# Altium schematic symbol library 2K0300久久派_主板_V1.0.4.0.SCHLIB: 42 symbols
Pins are listed as number, name and electrical type; pins without a type are passive.

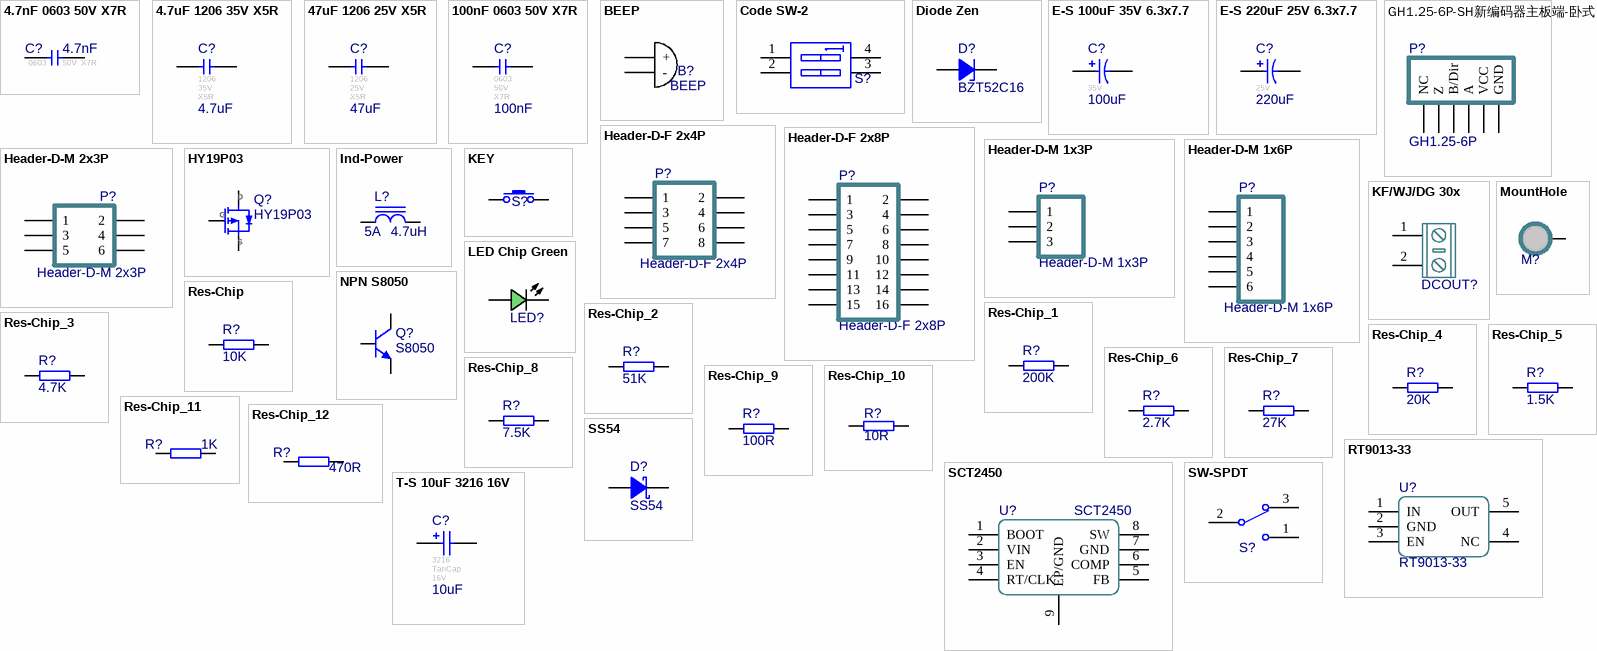
[diagram p0: symbols 4.7nF 0603 50V X7R to T-S 10uF 3216 16V]

## 4.7nF 0603 50V X7R
designator C?, comment value 4.7nF  FootPrint: 0603  Voltage: 50V  Type: X7R  (hidden comment: 4.7nF 50V X7R)
贴片瓷片电容; MLCC; 0603(1608);; Revision: V1.0
footprint CAPC1608[0603]-L (0603贴片电容 无丝印 2脚 1.60x0.80mm IPC高密度)
footprint CAPC1608[0603]-M (0603贴片电容 无丝印 2脚 1.60x0.80mm IPC低密度)
footprint CAPC1608[0603]-N (0603贴片电容 无丝印 2脚 1.60x0.80mm IPC中密度)
footprint CAPC1608[0603]S-L (0603贴片电容 有丝印 2脚 1.60x0.80mm IPC高密度)
footprint CAPC1608[0603]S-M (0603贴片电容 有丝印 2脚 1.60x0.80mm IPC低密度)
footprint CAPC1608[0603]S-N (0603贴片电容 有丝印 2脚 1.60x0.80mm IPC中密度)
pins: 1, 2

## 4.7uF 1206 35V X5R
designator C?, comment value 4.7uF  FootPrint: 1206  Voltage: 35V  Type: X5R  (hidden comment: 4.7uF 35V X5R)
贴片瓷片电容; MLCC; 1206(3216);; Revision: V1.0
footprint CAPC3216[1206] (1206贴片电容 无丝印 2脚 3.20x1.60mm IPC中密度)
footprint CAPC3216[1206]S (1206贴片电容 有丝印 2脚 3.20x1.60mm IPC中密度)
pins: 1, 2

## 47uF 1206 25V X5R
designator C?, comment value 47uF  FootPrint: 1206  Voltage: 25V  Type: X5R  (hidden comment: 47uF 25V X5R)
贴片瓷片电容; MLCC; 1206(3216);; Revision: V1.0
footprint CAPC3216[1206] (1206贴片电容 无丝印 2脚 3.20x1.60mm IPC中密度)
footprint CAPC3216[1206]S (1206贴片电容 有丝印 2脚 3.20x1.60mm IPC中密度)
pins: 1, 2

## 100nF 0603 50V X7R
designator C?, comment value 100nF  FootPrint: 0603  Voltage: 50V  Type: X7R  (hidden comment: 100nF 50V X7R)
贴片瓷片电容; MLCC; 0603(1608);; Revision: V1.0
footprint CAPC1608[0603]-L (0603贴片电容 无丝印 2脚 1.60x0.80mm IPC高密度)
footprint CAPC1608[0603]-M (0603贴片电容 无丝印 2脚 1.60x0.80mm IPC低密度)
footprint CAPC1608[0603]-N (0603贴片电容 无丝印 2脚 1.60x0.80mm IPC中密度)
footprint CAPC1608[0603]S-L (0603贴片电容 有丝印 2脚 1.60x0.80mm IPC高密度)
footprint CAPC1608[0603]S-M (0603贴片电容 有丝印 2脚 1.60x0.80mm IPC低密度)
footprint CAPC1608[0603]S-N (0603贴片电容 有丝印 2脚 1.60x0.80mm IPC中密度)
pins: 1, 2

## BEEP
designator B?
蜂鸣器
footprint BEEP 9x5.5mm
footprint BEEP 12x9.5mm
pins: 1 +, 2 -

## Code SW-2
designator S?, comment SW DIP-2  (value not drawn)
2位拨码开关; Published: 24-Mar-1999; Revision: July-2002: Re-released for DXP Platform.; Publisher: Altium Limited; Price(RMB): 0.000
footprint Code SW-2-SMD-1.27 (1.27间距 表贴式 2位 拨码开关)
footprint Code SW-2-DIP-2.54 (2位直插拨码开关 间距2.54)
pins: 1 A1, 2 A2, 3 B2, 4 B1

## Diode Zen
designator D?, comment BZT52C16
稳压二极管 齐纳二极管  Zener Diode; Published: 8-Jun-2000; Revision: July-2002: Re-released for DXP Platform.; Publisher: Altium Limited; Price(RMB): 0.000
footprint DIODE-0.7 (Zener Diode; 2 Leads)
footprint DIODE-0.4
footprint SOD-87[LL-41] (MELF Diode, 2-Leads, Body 5.00x2.49mm, IPC Medium Density)
footprint CD4521-1808
footprint SOD-80[LL-34] (MELF Diode, 2-Leads, Body 3.55x1.65mm, IPC Medium Density)
footprint SOD-123-FL (SOD Diode;2.70mm W X 1.60mm L X 1.35mm H body)
footprint SOD-123-L (SOD Diode;2.70mm W X 1.60mm L X 1.35mm H body)
footprint SOD-123-M (SOD Diode;2.70mm W X 1.60mm L X 1.35mm H body)
footprint SOD-323 (SOD Diode;1.65mm W X 1.24mm L X 1.16mm H body)
footprint SOD-523-L (SODFL Diode;1.20mm W X 0.80mm L X 0.70mm H body)
footprint SOD-523-M (SODFL Diode;1.20mm W X 0.80mm L X 0.70mm H body)
pins: A, K

## E-S 100uF 35V 6.3x7.7
designator C?, comment value 100uF  Voltage: 35V  (hidden comment: 100uF 35V 铝电解)
贴片电解电容 100uF 35V 6.3x7.7; Revision: V1.0; Type: 铝电解
footprint CAP-E-S 6.3 (贴片 铝电解电容 6.3mm)
pins: 1, 2

## E-S 220uF 25V 6.3x7.7
designator C?, comment value 220uF  Voltage: 25V  (hidden comment: 220uF 25V 铝电解)
贴片电解电容 220uF 25V 6.3x7.7; Revision: V1.0; Type: 铝电解
footprint CAP-E-S 6.3 (贴片 铝电解电容 6.3mm)
pins: 1, 2

## GH1.25-6P-SH新编码器主板端-卧式
designator P?, comment GH1.25-6P
逐飞1024线编码器GH1.25-6P主板端 卧式; Revision: V1.0; Value: GH1.25-6P
footprint ECD-GH1.25-6P-SH (逐飞1024线编码器GH1.25-6P 贴片 卧式 相对立式引脚顺序相反)
pins: 1 GND, 2 VCC, 3 A, 4 B/Dir, 5 Z, 6 NC

## Header-D-F 2x4P
designator P?
2x4pin, 直插, 双排座; Revision: V1.0; Value: Header-D-F 2x4P
footprint HDR2X4-F (2x4pin, 2.54mm间距, 直插, 直排座)
pins: 1, 2, 3, 4, 5, 6, 7, 8

## Header-D-F 2x8P
designator P?
2x8pin, 直插, 双排座; Revision: V1.0; Value: Header-D-F 2x8P
footprint HDR2X8-F (2x8pin, 2.54mm间距, 直插, 直排座)
footprint HDR2X8-F-High (加高 2x8 直插排座)
pins: 1, 2, 3, 4, 5, 6, 7, 8, 9, 10, 11, 12, 13, 14, 15, 16

## Header-D-M 1x3P
designator P?
1x3pin, 直插, 排针; Revision: V1.0; Value: Header-D-M 1x3P
footprint HDR1X3-M (1x3pin, 2.54mm间距, 直插, 直排针)
pins: 1, 2, 3

## Header-D-M 1x6P
designator P?
1x6pin, 直插, 排针; Revision: V1.0; Value: Header-D-M 1x6P
footprint HDR1X6-M (1x6pin, 直插, 直排针, 2.54mm间距)
pins: 1, 2, 3, 4, 5, 6

## Header-D-M 2x3P
designator P?
2x3pin, 直插, 双排针; Revision: V1.0; Value: Header-D-M 2x3P
footprint HDR2X3-M (2x3pin, 2.54mm间距, 直插, 直排针)
pins: 1, 2, 3, 4, 5, 6

## HY19P03
designator Q?
HY19P03 P-Channel MOSFET
footprint TO-252AA (D-PAK, 4-Leads, Body 6.1x6.5mm, Pitch 2.28mm, Lead Span 9.8mm, IPC Low Density)
pins: 1 D, 2 G, 3 S

## Ind-Power
designator L?, comment value 4.7uH  Imax: 5A  (hidden comment: 4.7uH 5A)
功率电感; DCR: .5m; Published: 8-Jun-2000; Revision: July-2002: Re-released for DXP Platform.; Publisher: Altium Limited; Price(RMB): 0.000
footprint CD31
footprint CD32
footprint CD42
footprint CD43
footprint CD52
footprint CD53
footprint CD54
footprint CD73
footprint CD75
footprint CD104
footprint CD105
footprint CD106
footprint 127 Shielded 12.5*12.5*7 (12.5mmx12.5mmx7mm 屏蔽电感)
footprint 0630 TPC 7*7*3 (12mmx12mmx6.5mm 一体成型功率电感)
footprint 1050 TPC 10*10*5 (12mmx12mmx6.5mm 一体成型功率电感)
footprint 1265 TPC 12*12*6.5 (12mmx12mmx6.5mm 一体成型功率电感)
footprint CD104R
footprint SLO2520
footprint 1365 TPC 13*13*6.5 (13mmx13mmx6.5mm 一体成型功率电感)
footprint INDUCTOR (工字电感 安装板专用封装)
footprint 0402 TPC 4*4*2 (4.2mm x 4.4mm x 2mm 一体成型功率电感)
pins: 1, 2

## KEY
designator S?, comment Button  (value not drawn)
按键; Published: 24-Mar-1999; Publisher: Altium Limited; Price(RMB): 0.000
footprint KEY-2-SMD-3*4 (龟仔按键 3*4)
footprint KEY-4-DIP-6*6 (6x6 直插按键封装)
footprint PTS810-3*4-CurvePin (3*4 白色 汽车遥控器贴片按键 包脚)
footprint KEY-2-SMD-3*6-L (3x6贴片按键 高密度)
footprint KEY-2-SMD-3*6-M (3x6贴片按键 低密度)
footprint KEY-4-SMD-6*6 (6x6贴片按键封装)
footprint KEY-2-SMD-Side-3*6*3.5 (7.6x3.5mm 侧按按键)
footprint KEY-4-SMD-12*12 (6x6贴片按键封装)
footprint TS-1809SM-A (3*3.5 贴片4脚按键 (TS-A015))
footprint TS-1199A (星坤TS-1199A 静音按键)
footprint KEY-2-DIP-6*6-S (6x6 直插按键立式封装)
pins: 1, 2

## KF/WJ/DG 30x
designator DCOUT?, comment KF/WJ/DG 30x connecter  (value not drawn)
接线端子 2Pin
footprint KF/WJ/DG 301-2p-5.0mm (2P 5.08mm间距 接线端子)
pins: 1, 2

## LED Chip Green
designator LED?, comment 翠绿贴片LED  (value not drawn)
Published: 8-Jun-2000; Revision: July-2002: Re-released for DXP Platform.; Publisher: Altium Limited; Price(RMB): 0.00
footprint LEDC1608(0603) (LED,Chip;1.60mm L X 0.80mm W X 0.80mm H)
footprint LEDC2012(0805) (LED,Chip;2.00mm L X 1.25mm W X 1.20mm H)
footprint LEDC3216(1206) (LED,Chip;3.20mm L X 1.60mm W X 1.30mm H)
footprint LEDC1608(0603)-L (LED,Chip;1.60mm L X 0.80mm W X 0.80mm H)
footprint LEDC2012(0805)-L (LED,Chip;2.00mm L X 1.25mm W X 1.20mm H)
footprint LEDC3216(1204) (LED,Chip;3.20mm L X 1.60mm W X 1.30mm H)
footprint LEDC3528-2 (3528 2脚 贴片LED)
pins: A, C

## MountHole
designator M?  (value not drawn)  (no BOM)
固定孔
footprint M3-MountHole
footprint M3-MountSlot (M3-MountHole)
footprint M3-MountSlot-Plated (M3-MountHole)
footprint M3-MountHole-4mm (M3-MountHole)
footprint M3-MountHole-5mm (M3-MountHole)
footprint M3-MountHole-6mm (M3-MountHole)
footprint M3-MountHole-7mm (M3-MountHole)
footprint M3-MountHole-8mm (M3-MountHole)
footprint M3-MountHole-9mm (M3-MountHole)
footprint M3-MountHole-10mm (M3-MountHole)
footprint M3-MountHole-11mm (M3-MountHole)
footprint M3-MountHole-12mm (M3-MountHole)
footprint M3-MountHole-13mm (M3-MountHole)
footprint M3-MountHole-14mm (M3-MountHole)
footprint M3-MountHole-15mm (M3-MountHole)
footprint M3-MountHole-16mm (M3-MountHole)
footprint M3-MountHole-17mm (M3-MountHole)
footprint M3-MountHole-18mm (M3-MountHole)
footprint M3-MountHole-19mm (M3-MountHole)
footprint M3-MountHole-20mm (M3-MountHole)
footprint M3-MountHole-Plated-D5.2 (M3-MountHole)
footprint M3-MountHole-Plated-D5.5 (M3-MountHole 外径5.5mm)
footprint M3-MountHole-Plated-D6 (M3-MountHole 外径6mm)
pins: 1

## NPN S8050
designator Q?, comment S8050
NPN 三极管; Published: 8-Jun-2000; Revision: July-2002: Re-released for DXP Platform.; Publisher: Altium Limited; Price(RMB): 0.000; PartNumber: S8050
footprint SOT-23 (SOT23, 3-Leads, Body 2.90x2.40mm, Pitch 0.95mm, IPC Medium Density)
pins: 1 B, 2 E, 3 C

## Res-Chip
designator R?, comment value 10K  (hidden comment: 10K ±1%)
贴片电阻; Power: 1/8W; Revision: V1.0; Tolerance: ±1%
footprint RESC0603[0201]-L (0201贴片电阻 无丝印 2脚 0.60x0.30mm IPC高密度)
footprint RESC0603[0201]-M (0201贴片电阻 无丝印 2脚 0.60x0.30mm IPC低密度)
footprint RESC0603[0201]-N (0201贴片电阻 无丝印 2脚 0.60x0.30mm IPC中密度)
footprint RESC0603[0201]S-L (0201贴片电阻 有丝印 2脚 0.60x0.30mm IPC高密度)
footprint RESC0603[0201]S-M (0201贴片电阻 有丝印 2脚 0.60x0.30mm IPC低密度)
footprint RESC0603[0201]S-N (0201贴片电阻 有丝印 2脚 0.60x0.30mm IPC中密度)
footprint RESC1005[0402]-L (0402贴片电阻 无丝印 2脚 1.00x0.50mm IPC高密度)
footprint RESC1005[0402]S-M (0402贴片电阻 有丝印 2脚 1.00x0.50mm IPC低密度)
footprint RESC1005[0402]-M (0402贴片电阻 无丝印 2脚 1.00x0.50mm IPC低密度)
footprint RESC1005[0402]-N (0402贴片电阻 无丝印 2脚 1.00x0.50mm IPC中密度)
footprint RESC1005[0402]S-L (0402贴片电阻 有丝印 2脚 1.00x0.50mm IPC高密度)
footprint RESC1005[0402]S-N (0402贴片电阻 有丝印 2脚 1.00x0.50mm IPC中密度)
footprint RESC1608[0603]-L (0603贴片电阻 无丝印 2脚 1.60x0.80mm IPC高密度)
footprint RESC1608[0603]-M (0603贴片电阻 无丝印 2脚 1.60x0.80mm IPC低密度)
footprint RESC1608[0603]-N (0603贴片电阻 无丝印 2脚 1.60x0.80mm IPC中密度)
footprint RESC1608[0603]S-L (0603贴片电阻 有丝印 2脚 1.60x0.80mm IPC高密度)
footprint RESC1608[0603]S-M (0603贴片电阻 有丝印 2脚 1.60x0.80mm IPC低密度)
footprint RESC1608[0603]S-N (0603贴片电阻 有丝印 2脚 1.60x0.80mm IPC中密度)
footprint RESC2012[0805] (0805贴片电阻 无丝印 2脚 2.00x1.20mm IPC高密度)
footprint RESC2012[0805]S-L (0805贴片电阻 有丝印 2脚 2.00x1.20mm IPC高密度)
footprint RESC2012[0805]S-M (0805贴片电阻 有丝印 2脚 2.00x1.20mm IPC低密度)
footprint RESC2012[0805]S-N (0805贴片电阻 有丝印 2脚 2.00x1.20mm IPC中密度)
footprint RESC3216[1206] (1206贴片电阻 无丝印 2脚 3.20x1.60mm IPC高密度)
footprint RESC3216[1206]S-L (1206贴片电阻 有丝印 2脚 3.20x1.60mm IPC高密度)
footprint RESC3216[1206]S-M (1206贴片电阻 有丝印 2脚 3.20x1.60mm IPC低密度)
footprint RESC3216[1206]S-N (1206贴片电阻 有丝印 2脚 3.20x1.60mm IPC中密度)
footprint RESC3225[1210] (Chip Resistor, 2-Leads, Body 3.20x2.49mm, IPC Medium Density)
footprint RESC3225[1210]S (Silkscreen Outside, Chip Resistor, 2-Leads, Body 3.20x2.49mm, IPC Medium Density)
footprint RESC5025[2010] (Chip Resistor, 2-Leads, Body 5.00x2.50mm, IPC Medium Density)
footprint RESC5025[2010]S (Silkscreen Outside, Chip Resistor, 2-Leads, Body 5.00x2.50mm, IPC Medium Density)
footprint RESC6332[2512] (2512贴片电阻 无丝印 2脚 6.30x3.20mm IPC中密度)
footprint RESC6332[2512]S (2512贴片电阻 有丝印 2脚 6.30x3.20mm IPC中密度)
pins: 1, 2

## Res-Chip_1
designator R?, comment value 200K  (hidden comment: 200K ±1%)
贴片电阻; Power: 1/8W; Revision: V1.0; Tolerance: ±1%
footprint RESC0603[0201]-L (0201贴片电阻 无丝印 2脚 0.60x0.30mm IPC高密度)
footprint RESC0603[0201]-M (0201贴片电阻 无丝印 2脚 0.60x0.30mm IPC低密度)
footprint RESC0603[0201]-N (0201贴片电阻 无丝印 2脚 0.60x0.30mm IPC中密度)
footprint RESC0603[0201]S-L (0201贴片电阻 有丝印 2脚 0.60x0.30mm IPC高密度)
footprint RESC0603[0201]S-M (0201贴片电阻 有丝印 2脚 0.60x0.30mm IPC低密度)
footprint RESC0603[0201]S-N (0201贴片电阻 有丝印 2脚 0.60x0.30mm IPC中密度)
footprint RESC1005[0402]-L (0402贴片电阻 无丝印 2脚 1.00x0.50mm IPC高密度)
footprint RESC1005[0402]S-M (0402贴片电阻 有丝印 2脚 1.00x0.50mm IPC低密度)
footprint RESC1005[0402]-M (0402贴片电阻 无丝印 2脚 1.00x0.50mm IPC低密度)
footprint RESC1005[0402]-N (0402贴片电阻 无丝印 2脚 1.00x0.50mm IPC中密度)
footprint RESC1005[0402]S-L (0402贴片电阻 有丝印 2脚 1.00x0.50mm IPC高密度)
footprint RESC1005[0402]S-N (0402贴片电阻 有丝印 2脚 1.00x0.50mm IPC中密度)
footprint RESC1608[0603]-L (0603贴片电阻 无丝印 2脚 1.60x0.80mm IPC高密度)
footprint RESC1608[0603]-M (0603贴片电阻 无丝印 2脚 1.60x0.80mm IPC低密度)
footprint RESC1608[0603]-N (0603贴片电阻 无丝印 2脚 1.60x0.80mm IPC中密度)
footprint RESC1608[0603]S-L (0603贴片电阻 有丝印 2脚 1.60x0.80mm IPC高密度)
footprint RESC1608[0603]S-M (0603贴片电阻 有丝印 2脚 1.60x0.80mm IPC低密度)
footprint RESC1608[0603]S-N (0603贴片电阻 有丝印 2脚 1.60x0.80mm IPC中密度)
footprint RESC2012[0805] (0805贴片电阻 无丝印 2脚 2.00x1.20mm IPC高密度)
footprint RESC2012[0805]S-L (0805贴片电阻 有丝印 2脚 2.00x1.20mm IPC高密度)
footprint RESC2012[0805]S-M (0805贴片电阻 有丝印 2脚 2.00x1.20mm IPC低密度)
footprint RESC2012[0805]S-N (0805贴片电阻 有丝印 2脚 2.00x1.20mm IPC中密度)
footprint RESC3216[1206] (1206贴片电阻 无丝印 2脚 3.20x1.60mm IPC高密度)
footprint RESC3216[1206]S-L (1206贴片电阻 有丝印 2脚 3.20x1.60mm IPC高密度)
footprint RESC3216[1206]S-M (1206贴片电阻 有丝印 2脚 3.20x1.60mm IPC低密度)
footprint RESC3216[1206]S-N (1206贴片电阻 有丝印 2脚 3.20x1.60mm IPC中密度)
footprint RESC3225[1210] (Chip Resistor, 2-Leads, Body 3.20x2.49mm, IPC Medium Density)
footprint RESC3225[1210]S (Silkscreen Outside, Chip Resistor, 2-Leads, Body 3.20x2.49mm, IPC Medium Density)
footprint RESC5025[2010] (Chip Resistor, 2-Leads, Body 5.00x2.50mm, IPC Medium Density)
footprint RESC5025[2010]S (Silkscreen Outside, Chip Resistor, 2-Leads, Body 5.00x2.50mm, IPC Medium Density)
footprint RESC6332[2512] (2512贴片电阻 无丝印 2脚 6.30x3.20mm IPC中密度)
footprint RESC6332[2512]S (2512贴片电阻 有丝印 2脚 6.30x3.20mm IPC中密度)
pins: 1, 2

## Res-Chip_2
designator R?, comment value 51K  (hidden comment: 51K ±1%)
贴片电阻; Power: 1/8W; Revision: V1.0; Tolerance: ±1%
footprint RESC0603[0201]-L (0201贴片电阻 无丝印 2脚 0.60x0.30mm IPC高密度)
footprint RESC0603[0201]-M (0201贴片电阻 无丝印 2脚 0.60x0.30mm IPC低密度)
footprint RESC0603[0201]-N (0201贴片电阻 无丝印 2脚 0.60x0.30mm IPC中密度)
footprint RESC0603[0201]S-L (0201贴片电阻 有丝印 2脚 0.60x0.30mm IPC高密度)
footprint RESC0603[0201]S-M (0201贴片电阻 有丝印 2脚 0.60x0.30mm IPC低密度)
footprint RESC0603[0201]S-N (0201贴片电阻 有丝印 2脚 0.60x0.30mm IPC中密度)
footprint RESC1005[0402]-L (0402贴片电阻 无丝印 2脚 1.00x0.50mm IPC高密度)
footprint RESC1005[0402]S-M (0402贴片电阻 有丝印 2脚 1.00x0.50mm IPC低密度)
footprint RESC1005[0402]-M (0402贴片电阻 无丝印 2脚 1.00x0.50mm IPC低密度)
footprint RESC1005[0402]-N (0402贴片电阻 无丝印 2脚 1.00x0.50mm IPC中密度)
footprint RESC1005[0402]S-L (0402贴片电阻 有丝印 2脚 1.00x0.50mm IPC高密度)
footprint RESC1005[0402]S-N (0402贴片电阻 有丝印 2脚 1.00x0.50mm IPC中密度)
footprint RESC1608[0603]-L (0603贴片电阻 无丝印 2脚 1.60x0.80mm IPC高密度)
footprint RESC1608[0603]-M (0603贴片电阻 无丝印 2脚 1.60x0.80mm IPC低密度)
footprint RESC1608[0603]-N (0603贴片电阻 无丝印 2脚 1.60x0.80mm IPC中密度)
footprint RESC1608[0603]S-L (0603贴片电阻 有丝印 2脚 1.60x0.80mm IPC高密度)
footprint RESC1608[0603]S-M (0603贴片电阻 有丝印 2脚 1.60x0.80mm IPC低密度)
footprint RESC1608[0603]S-N (0603贴片电阻 有丝印 2脚 1.60x0.80mm IPC中密度)
footprint RESC2012[0805] (0805贴片电阻 无丝印 2脚 2.00x1.20mm IPC高密度)
footprint RESC2012[0805]S-L (0805贴片电阻 有丝印 2脚 2.00x1.20mm IPC高密度)
footprint RESC2012[0805]S-M (0805贴片电阻 有丝印 2脚 2.00x1.20mm IPC低密度)
footprint RESC2012[0805]S-N (0805贴片电阻 有丝印 2脚 2.00x1.20mm IPC中密度)
footprint RESC3216[1206] (1206贴片电阻 无丝印 2脚 3.20x1.60mm IPC高密度)
footprint RESC3216[1206]S-L (1206贴片电阻 有丝印 2脚 3.20x1.60mm IPC高密度)
footprint RESC3216[1206]S-M (1206贴片电阻 有丝印 2脚 3.20x1.60mm IPC低密度)
footprint RESC3216[1206]S-N (1206贴片电阻 有丝印 2脚 3.20x1.60mm IPC中密度)
footprint RESC3225[1210] (Chip Resistor, 2-Leads, Body 3.20x2.49mm, IPC Medium Density)
footprint RESC3225[1210]S (Silkscreen Outside, Chip Resistor, 2-Leads, Body 3.20x2.49mm, IPC Medium Density)
footprint RESC5025[2010] (Chip Resistor, 2-Leads, Body 5.00x2.50mm, IPC Medium Density)
footprint RESC5025[2010]S (Silkscreen Outside, Chip Resistor, 2-Leads, Body 5.00x2.50mm, IPC Medium Density)
footprint RESC6332[2512] (2512贴片电阻 无丝印 2脚 6.30x3.20mm IPC中密度)
footprint RESC6332[2512]S (2512贴片电阻 有丝印 2脚 6.30x3.20mm IPC中密度)
pins: 1, 2

## Res-Chip_3
designator R?, comment value 4.7K  (hidden comment: 4.7K ±1%)
贴片电阻; Power: 1/8W; Revision: V1.0; Tolerance: ±1%
footprint RESC0603[0201]-L (0201贴片电阻 无丝印 2脚 0.60x0.30mm IPC高密度)
footprint RESC0603[0201]-M (0201贴片电阻 无丝印 2脚 0.60x0.30mm IPC低密度)
footprint RESC0603[0201]-N (0201贴片电阻 无丝印 2脚 0.60x0.30mm IPC中密度)
footprint RESC0603[0201]S-L (0201贴片电阻 有丝印 2脚 0.60x0.30mm IPC高密度)
footprint RESC0603[0201]S-M (0201贴片电阻 有丝印 2脚 0.60x0.30mm IPC低密度)
footprint RESC0603[0201]S-N (0201贴片电阻 有丝印 2脚 0.60x0.30mm IPC中密度)
footprint RESC1005[0402]-L (0402贴片电阻 无丝印 2脚 1.00x0.50mm IPC高密度)
footprint RESC1005[0402]S-M (0402贴片电阻 有丝印 2脚 1.00x0.50mm IPC低密度)
footprint RESC1005[0402]-M (0402贴片电阻 无丝印 2脚 1.00x0.50mm IPC低密度)
footprint RESC1005[0402]-N (0402贴片电阻 无丝印 2脚 1.00x0.50mm IPC中密度)
footprint RESC1005[0402]S-L (0402贴片电阻 有丝印 2脚 1.00x0.50mm IPC高密度)
footprint RESC1005[0402]S-N (0402贴片电阻 有丝印 2脚 1.00x0.50mm IPC中密度)
footprint RESC1608[0603]-L (0603贴片电阻 无丝印 2脚 1.60x0.80mm IPC高密度)
footprint RESC1608[0603]-M (0603贴片电阻 无丝印 2脚 1.60x0.80mm IPC低密度)
footprint RESC1608[0603]-N (0603贴片电阻 无丝印 2脚 1.60x0.80mm IPC中密度)
footprint RESC1608[0603]S-L (0603贴片电阻 有丝印 2脚 1.60x0.80mm IPC高密度)
footprint RESC1608[0603]S-M (0603贴片电阻 有丝印 2脚 1.60x0.80mm IPC低密度)
footprint RESC1608[0603]S-N (0603贴片电阻 有丝印 2脚 1.60x0.80mm IPC中密度)
footprint RESC2012[0805] (0805贴片电阻 无丝印 2脚 2.00x1.20mm IPC高密度)
footprint RESC2012[0805]S-L (0805贴片电阻 有丝印 2脚 2.00x1.20mm IPC高密度)
footprint RESC2012[0805]S-M (0805贴片电阻 有丝印 2脚 2.00x1.20mm IPC低密度)
footprint RESC2012[0805]S-N (0805贴片电阻 有丝印 2脚 2.00x1.20mm IPC中密度)
footprint RESC3216[1206] (1206贴片电阻 无丝印 2脚 3.20x1.60mm IPC高密度)
footprint RESC3216[1206]S-L (1206贴片电阻 有丝印 2脚 3.20x1.60mm IPC高密度)
footprint RESC3216[1206]S-M (1206贴片电阻 有丝印 2脚 3.20x1.60mm IPC低密度)
footprint RESC3216[1206]S-N (1206贴片电阻 有丝印 2脚 3.20x1.60mm IPC中密度)
footprint RESC3225[1210] (Chip Resistor, 2-Leads, Body 3.20x2.49mm, IPC Medium Density)
footprint RESC3225[1210]S (Silkscreen Outside, Chip Resistor, 2-Leads, Body 3.20x2.49mm, IPC Medium Density)
footprint RESC5025[2010] (Chip Resistor, 2-Leads, Body 5.00x2.50mm, IPC Medium Density)
footprint RESC5025[2010]S (Silkscreen Outside, Chip Resistor, 2-Leads, Body 5.00x2.50mm, IPC Medium Density)
footprint RESC6332[2512] (2512贴片电阻 无丝印 2脚 6.30x3.20mm IPC中密度)
footprint RESC6332[2512]S (2512贴片电阻 有丝印 2脚 6.30x3.20mm IPC中密度)
pins: 1, 2

## Res-Chip_4
designator R?, comment value 20K  (hidden comment: 20K ±1%)
贴片电阻; Power: 1/8W; Revision: V1.0; Tolerance: ±1%
footprint RESC0603[0201]-L (0201贴片电阻 无丝印 2脚 0.60x0.30mm IPC高密度)
footprint RESC0603[0201]-M (0201贴片电阻 无丝印 2脚 0.60x0.30mm IPC低密度)
footprint RESC0603[0201]-N (0201贴片电阻 无丝印 2脚 0.60x0.30mm IPC中密度)
footprint RESC0603[0201]S-L (0201贴片电阻 有丝印 2脚 0.60x0.30mm IPC高密度)
footprint RESC0603[0201]S-M (0201贴片电阻 有丝印 2脚 0.60x0.30mm IPC低密度)
footprint RESC0603[0201]S-N (0201贴片电阻 有丝印 2脚 0.60x0.30mm IPC中密度)
footprint RESC1005[0402]-L (0402贴片电阻 无丝印 2脚 1.00x0.50mm IPC高密度)
footprint RESC1005[0402]S-M (0402贴片电阻 有丝印 2脚 1.00x0.50mm IPC低密度)
footprint RESC1005[0402]-M (0402贴片电阻 无丝印 2脚 1.00x0.50mm IPC低密度)
footprint RESC1005[0402]-N (0402贴片电阻 无丝印 2脚 1.00x0.50mm IPC中密度)
footprint RESC1005[0402]S-L (0402贴片电阻 有丝印 2脚 1.00x0.50mm IPC高密度)
footprint RESC1005[0402]S-N (0402贴片电阻 有丝印 2脚 1.00x0.50mm IPC中密度)
footprint RESC1608[0603]-L (0603贴片电阻 无丝印 2脚 1.60x0.80mm IPC高密度)
footprint RESC1608[0603]-M (0603贴片电阻 无丝印 2脚 1.60x0.80mm IPC低密度)
footprint RESC1608[0603]-N (0603贴片电阻 无丝印 2脚 1.60x0.80mm IPC中密度)
footprint RESC1608[0603]S-L (0603贴片电阻 有丝印 2脚 1.60x0.80mm IPC高密度)
footprint RESC1608[0603]S-M (0603贴片电阻 有丝印 2脚 1.60x0.80mm IPC低密度)
footprint RESC1608[0603]S-N (0603贴片电阻 有丝印 2脚 1.60x0.80mm IPC中密度)
footprint RESC2012[0805] (0805贴片电阻 无丝印 2脚 2.00x1.20mm IPC高密度)
footprint RESC2012[0805]S-L (0805贴片电阻 有丝印 2脚 2.00x1.20mm IPC高密度)
footprint RESC2012[0805]S-M (0805贴片电阻 有丝印 2脚 2.00x1.20mm IPC低密度)
footprint RESC2012[0805]S-N (0805贴片电阻 有丝印 2脚 2.00x1.20mm IPC中密度)
footprint RESC3216[1206] (1206贴片电阻 无丝印 2脚 3.20x1.60mm IPC高密度)
footprint RESC3216[1206]S-L (1206贴片电阻 有丝印 2脚 3.20x1.60mm IPC高密度)
footprint RESC3216[1206]S-M (1206贴片电阻 有丝印 2脚 3.20x1.60mm IPC低密度)
footprint RESC3216[1206]S-N (1206贴片电阻 有丝印 2脚 3.20x1.60mm IPC中密度)
footprint RESC3225[1210] (Chip Resistor, 2-Leads, Body 3.20x2.49mm, IPC Medium Density)
footprint RESC3225[1210]S (Silkscreen Outside, Chip Resistor, 2-Leads, Body 3.20x2.49mm, IPC Medium Density)
footprint RESC5025[2010] (Chip Resistor, 2-Leads, Body 5.00x2.50mm, IPC Medium Density)
footprint RESC5025[2010]S (Silkscreen Outside, Chip Resistor, 2-Leads, Body 5.00x2.50mm, IPC Medium Density)
footprint RESC6332[2512] (2512贴片电阻 无丝印 2脚 6.30x3.20mm IPC中密度)
footprint RESC6332[2512]S (2512贴片电阻 有丝印 2脚 6.30x3.20mm IPC中密度)
pins: 1, 2

## Res-Chip_5
designator R?, comment value 1.5K  (hidden comment: 1.5K ±1%)
贴片电阻; Power: 1/8W; Revision: V1.0; Tolerance: ±1%
footprint RESC0603[0201]-L (0201贴片电阻 无丝印 2脚 0.60x0.30mm IPC高密度)
footprint RESC0603[0201]-M (0201贴片电阻 无丝印 2脚 0.60x0.30mm IPC低密度)
footprint RESC0603[0201]-N (0201贴片电阻 无丝印 2脚 0.60x0.30mm IPC中密度)
footprint RESC0603[0201]S-L (0201贴片电阻 有丝印 2脚 0.60x0.30mm IPC高密度)
footprint RESC0603[0201]S-M (0201贴片电阻 有丝印 2脚 0.60x0.30mm IPC低密度)
footprint RESC0603[0201]S-N (0201贴片电阻 有丝印 2脚 0.60x0.30mm IPC中密度)
footprint RESC1005[0402]-L (0402贴片电阻 无丝印 2脚 1.00x0.50mm IPC高密度)
footprint RESC1005[0402]S-M (0402贴片电阻 有丝印 2脚 1.00x0.50mm IPC低密度)
footprint RESC1005[0402]-M (0402贴片电阻 无丝印 2脚 1.00x0.50mm IPC低密度)
footprint RESC1005[0402]-N (0402贴片电阻 无丝印 2脚 1.00x0.50mm IPC中密度)
footprint RESC1005[0402]S-L (0402贴片电阻 有丝印 2脚 1.00x0.50mm IPC高密度)
footprint RESC1005[0402]S-N (0402贴片电阻 有丝印 2脚 1.00x0.50mm IPC中密度)
footprint RESC1608[0603]-L (0603贴片电阻 无丝印 2脚 1.60x0.80mm IPC高密度)
footprint RESC1608[0603]-M (0603贴片电阻 无丝印 2脚 1.60x0.80mm IPC低密度)
footprint RESC1608[0603]-N (0603贴片电阻 无丝印 2脚 1.60x0.80mm IPC中密度)
footprint RESC1608[0603]S-L (0603贴片电阻 有丝印 2脚 1.60x0.80mm IPC高密度)
footprint RESC1608[0603]S-M (0603贴片电阻 有丝印 2脚 1.60x0.80mm IPC低密度)
footprint RESC1608[0603]S-N (0603贴片电阻 有丝印 2脚 1.60x0.80mm IPC中密度)
footprint RESC2012[0805] (0805贴片电阻 无丝印 2脚 2.00x1.20mm IPC高密度)
footprint RESC2012[0805]S-L (0805贴片电阻 有丝印 2脚 2.00x1.20mm IPC高密度)
footprint RESC2012[0805]S-M (0805贴片电阻 有丝印 2脚 2.00x1.20mm IPC低密度)
footprint RESC2012[0805]S-N (0805贴片电阻 有丝印 2脚 2.00x1.20mm IPC中密度)
footprint RESC3216[1206] (1206贴片电阻 无丝印 2脚 3.20x1.60mm IPC高密度)
footprint RESC3216[1206]S-L (1206贴片电阻 有丝印 2脚 3.20x1.60mm IPC高密度)
footprint RESC3216[1206]S-M (1206贴片电阻 有丝印 2脚 3.20x1.60mm IPC低密度)
footprint RESC3216[1206]S-N (1206贴片电阻 有丝印 2脚 3.20x1.60mm IPC中密度)
footprint RESC3225[1210] (Chip Resistor, 2-Leads, Body 3.20x2.49mm, IPC Medium Density)
footprint RESC3225[1210]S (Silkscreen Outside, Chip Resistor, 2-Leads, Body 3.20x2.49mm, IPC Medium Density)
footprint RESC5025[2010] (Chip Resistor, 2-Leads, Body 5.00x2.50mm, IPC Medium Density)
footprint RESC5025[2010]S (Silkscreen Outside, Chip Resistor, 2-Leads, Body 5.00x2.50mm, IPC Medium Density)
footprint RESC6332[2512] (2512贴片电阻 无丝印 2脚 6.30x3.20mm IPC中密度)
footprint RESC6332[2512]S (2512贴片电阻 有丝印 2脚 6.30x3.20mm IPC中密度)
pins: 1, 2

## Res-Chip_6
designator R?, comment value 2.7K  (hidden comment: 2.7K ±1%)
贴片电阻; Power: 1/8W; Revision: V1.0; Tolerance: ±1%
footprint RESC0603[0201]-L (0201贴片电阻 无丝印 2脚 0.60x0.30mm IPC高密度)
footprint RESC0603[0201]-M (0201贴片电阻 无丝印 2脚 0.60x0.30mm IPC低密度)
footprint RESC0603[0201]-N (0201贴片电阻 无丝印 2脚 0.60x0.30mm IPC中密度)
footprint RESC0603[0201]S-L (0201贴片电阻 有丝印 2脚 0.60x0.30mm IPC高密度)
footprint RESC0603[0201]S-M (0201贴片电阻 有丝印 2脚 0.60x0.30mm IPC低密度)
footprint RESC0603[0201]S-N (0201贴片电阻 有丝印 2脚 0.60x0.30mm IPC中密度)
footprint RESC1005[0402]-L (0402贴片电阻 无丝印 2脚 1.00x0.50mm IPC高密度)
footprint RESC1005[0402]S-M (0402贴片电阻 有丝印 2脚 1.00x0.50mm IPC低密度)
footprint RESC1005[0402]-M (0402贴片电阻 无丝印 2脚 1.00x0.50mm IPC低密度)
footprint RESC1005[0402]-N (0402贴片电阻 无丝印 2脚 1.00x0.50mm IPC中密度)
footprint RESC1005[0402]S-L (0402贴片电阻 有丝印 2脚 1.00x0.50mm IPC高密度)
footprint RESC1005[0402]S-N (0402贴片电阻 有丝印 2脚 1.00x0.50mm IPC中密度)
footprint RESC1608[0603]-L (0603贴片电阻 无丝印 2脚 1.60x0.80mm IPC高密度)
footprint RESC1608[0603]-M (0603贴片电阻 无丝印 2脚 1.60x0.80mm IPC低密度)
footprint RESC1608[0603]-N (0603贴片电阻 无丝印 2脚 1.60x0.80mm IPC中密度)
footprint RESC1608[0603]S-L (0603贴片电阻 有丝印 2脚 1.60x0.80mm IPC高密度)
footprint RESC1608[0603]S-M (0603贴片电阻 有丝印 2脚 1.60x0.80mm IPC低密度)
footprint RESC1608[0603]S-N (0603贴片电阻 有丝印 2脚 1.60x0.80mm IPC中密度)
footprint RESC2012[0805] (0805贴片电阻 无丝印 2脚 2.00x1.20mm IPC高密度)
footprint RESC2012[0805]S-L (0805贴片电阻 有丝印 2脚 2.00x1.20mm IPC高密度)
footprint RESC2012[0805]S-M (0805贴片电阻 有丝印 2脚 2.00x1.20mm IPC低密度)
footprint RESC2012[0805]S-N (0805贴片电阻 有丝印 2脚 2.00x1.20mm IPC中密度)
footprint RESC3216[1206] (1206贴片电阻 无丝印 2脚 3.20x1.60mm IPC高密度)
footprint RESC3216[1206]S-L (1206贴片电阻 有丝印 2脚 3.20x1.60mm IPC高密度)
footprint RESC3216[1206]S-M (1206贴片电阻 有丝印 2脚 3.20x1.60mm IPC低密度)
footprint RESC3216[1206]S-N (1206贴片电阻 有丝印 2脚 3.20x1.60mm IPC中密度)
footprint RESC3225[1210] (Chip Resistor, 2-Leads, Body 3.20x2.49mm, IPC Medium Density)
footprint RESC3225[1210]S (Silkscreen Outside, Chip Resistor, 2-Leads, Body 3.20x2.49mm, IPC Medium Density)
footprint RESC5025[2010] (Chip Resistor, 2-Leads, Body 5.00x2.50mm, IPC Medium Density)
footprint RESC5025[2010]S (Silkscreen Outside, Chip Resistor, 2-Leads, Body 5.00x2.50mm, IPC Medium Density)
footprint RESC6332[2512] (2512贴片电阻 无丝印 2脚 6.30x3.20mm IPC中密度)
footprint RESC6332[2512]S (2512贴片电阻 有丝印 2脚 6.30x3.20mm IPC中密度)
pins: 1, 2

## Res-Chip_7
designator R?, comment value 27K  (hidden comment: 27K ±1%)
贴片电阻; Power: 1/8W; Revision: V1.0; Tolerance: ±1%
footprint RESC0603[0201]-L (0201贴片电阻 无丝印 2脚 0.60x0.30mm IPC高密度)
footprint RESC0603[0201]-M (0201贴片电阻 无丝印 2脚 0.60x0.30mm IPC低密度)
footprint RESC0603[0201]-N (0201贴片电阻 无丝印 2脚 0.60x0.30mm IPC中密度)
footprint RESC0603[0201]S-L (0201贴片电阻 有丝印 2脚 0.60x0.30mm IPC高密度)
footprint RESC0603[0201]S-M (0201贴片电阻 有丝印 2脚 0.60x0.30mm IPC低密度)
footprint RESC0603[0201]S-N (0201贴片电阻 有丝印 2脚 0.60x0.30mm IPC中密度)
footprint RESC1005[0402]-L (0402贴片电阻 无丝印 2脚 1.00x0.50mm IPC高密度)
footprint RESC1005[0402]S-M (0402贴片电阻 有丝印 2脚 1.00x0.50mm IPC低密度)
footprint RESC1005[0402]-M (0402贴片电阻 无丝印 2脚 1.00x0.50mm IPC低密度)
footprint RESC1005[0402]-N (0402贴片电阻 无丝印 2脚 1.00x0.50mm IPC中密度)
footprint RESC1005[0402]S-L (0402贴片电阻 有丝印 2脚 1.00x0.50mm IPC高密度)
footprint RESC1005[0402]S-N (0402贴片电阻 有丝印 2脚 1.00x0.50mm IPC中密度)
footprint RESC1608[0603]-L (0603贴片电阻 无丝印 2脚 1.60x0.80mm IPC高密度)
footprint RESC1608[0603]-M (0603贴片电阻 无丝印 2脚 1.60x0.80mm IPC低密度)
footprint RESC1608[0603]-N (0603贴片电阻 无丝印 2脚 1.60x0.80mm IPC中密度)
footprint RESC1608[0603]S-L (0603贴片电阻 有丝印 2脚 1.60x0.80mm IPC高密度)
footprint RESC1608[0603]S-M (0603贴片电阻 有丝印 2脚 1.60x0.80mm IPC低密度)
footprint RESC1608[0603]S-N (0603贴片电阻 有丝印 2脚 1.60x0.80mm IPC中密度)
footprint RESC2012[0805] (0805贴片电阻 无丝印 2脚 2.00x1.20mm IPC高密度)
footprint RESC2012[0805]S-L (0805贴片电阻 有丝印 2脚 2.00x1.20mm IPC高密度)
footprint RESC2012[0805]S-M (0805贴片电阻 有丝印 2脚 2.00x1.20mm IPC低密度)
footprint RESC2012[0805]S-N (0805贴片电阻 有丝印 2脚 2.00x1.20mm IPC中密度)
footprint RESC3216[1206] (1206贴片电阻 无丝印 2脚 3.20x1.60mm IPC高密度)
footprint RESC3216[1206]S-L (1206贴片电阻 有丝印 2脚 3.20x1.60mm IPC高密度)
footprint RESC3216[1206]S-M (1206贴片电阻 有丝印 2脚 3.20x1.60mm IPC低密度)
footprint RESC3216[1206]S-N (1206贴片电阻 有丝印 2脚 3.20x1.60mm IPC中密度)
footprint RESC3225[1210] (Chip Resistor, 2-Leads, Body 3.20x2.49mm, IPC Medium Density)
footprint RESC3225[1210]S (Silkscreen Outside, Chip Resistor, 2-Leads, Body 3.20x2.49mm, IPC Medium Density)
footprint RESC5025[2010] (Chip Resistor, 2-Leads, Body 5.00x2.50mm, IPC Medium Density)
footprint RESC5025[2010]S (Silkscreen Outside, Chip Resistor, 2-Leads, Body 5.00x2.50mm, IPC Medium Density)
footprint RESC6332[2512] (2512贴片电阻 无丝印 2脚 6.30x3.20mm IPC中密度)
footprint RESC6332[2512]S (2512贴片电阻 有丝印 2脚 6.30x3.20mm IPC中密度)
pins: 1, 2

## Res-Chip_8
designator R?, comment value 7.5K  (hidden comment: 7.5K ±1%)
贴片电阻; Power: 1/8W; Revision: V1.0; Tolerance: ±1%
footprint RESC0603[0201]-L (0201贴片电阻 无丝印 2脚 0.60x0.30mm IPC高密度)
footprint RESC0603[0201]-M (0201贴片电阻 无丝印 2脚 0.60x0.30mm IPC低密度)
footprint RESC0603[0201]-N (0201贴片电阻 无丝印 2脚 0.60x0.30mm IPC中密度)
footprint RESC0603[0201]S-L (0201贴片电阻 有丝印 2脚 0.60x0.30mm IPC高密度)
footprint RESC0603[0201]S-M (0201贴片电阻 有丝印 2脚 0.60x0.30mm IPC低密度)
footprint RESC0603[0201]S-N (0201贴片电阻 有丝印 2脚 0.60x0.30mm IPC中密度)
footprint RESC1005[0402]-L (0402贴片电阻 无丝印 2脚 1.00x0.50mm IPC高密度)
footprint RESC1005[0402]S-M (0402贴片电阻 有丝印 2脚 1.00x0.50mm IPC低密度)
footprint RESC1005[0402]-M (0402贴片电阻 无丝印 2脚 1.00x0.50mm IPC低密度)
footprint RESC1005[0402]-N (0402贴片电阻 无丝印 2脚 1.00x0.50mm IPC中密度)
footprint RESC1005[0402]S-L (0402贴片电阻 有丝印 2脚 1.00x0.50mm IPC高密度)
footprint RESC1005[0402]S-N (0402贴片电阻 有丝印 2脚 1.00x0.50mm IPC中密度)
footprint RESC1608[0603]-L (0603贴片电阻 无丝印 2脚 1.60x0.80mm IPC高密度)
footprint RESC1608[0603]-M (0603贴片电阻 无丝印 2脚 1.60x0.80mm IPC低密度)
footprint RESC1608[0603]-N (0603贴片电阻 无丝印 2脚 1.60x0.80mm IPC中密度)
footprint RESC1608[0603]S-L (0603贴片电阻 有丝印 2脚 1.60x0.80mm IPC高密度)
footprint RESC1608[0603]S-M (0603贴片电阻 有丝印 2脚 1.60x0.80mm IPC低密度)
footprint RESC1608[0603]S-N (0603贴片电阻 有丝印 2脚 1.60x0.80mm IPC中密度)
footprint RESC2012[0805] (0805贴片电阻 无丝印 2脚 2.00x1.20mm IPC高密度)
footprint RESC2012[0805]S-L (0805贴片电阻 有丝印 2脚 2.00x1.20mm IPC高密度)
footprint RESC2012[0805]S-M (0805贴片电阻 有丝印 2脚 2.00x1.20mm IPC低密度)
footprint RESC2012[0805]S-N (0805贴片电阻 有丝印 2脚 2.00x1.20mm IPC中密度)
footprint RESC3216[1206] (1206贴片电阻 无丝印 2脚 3.20x1.60mm IPC高密度)
footprint RESC3216[1206]S-L (1206贴片电阻 有丝印 2脚 3.20x1.60mm IPC高密度)
footprint RESC3216[1206]S-M (1206贴片电阻 有丝印 2脚 3.20x1.60mm IPC低密度)
footprint RESC3216[1206]S-N (1206贴片电阻 有丝印 2脚 3.20x1.60mm IPC中密度)
footprint RESC3225[1210] (Chip Resistor, 2-Leads, Body 3.20x2.49mm, IPC Medium Density)
footprint RESC3225[1210]S (Silkscreen Outside, Chip Resistor, 2-Leads, Body 3.20x2.49mm, IPC Medium Density)
footprint RESC5025[2010] (Chip Resistor, 2-Leads, Body 5.00x2.50mm, IPC Medium Density)
footprint RESC5025[2010]S (Silkscreen Outside, Chip Resistor, 2-Leads, Body 5.00x2.50mm, IPC Medium Density)
footprint RESC6332[2512] (2512贴片电阻 无丝印 2脚 6.30x3.20mm IPC中密度)
footprint RESC6332[2512]S (2512贴片电阻 有丝印 2脚 6.30x3.20mm IPC中密度)
pins: 1, 2

## Res-Chip_9
designator R?, comment value 100R  (hidden comment: 100R ±1%)
贴片电阻; Power: 1/8W; Revision: V1.0; Tolerance: ±1%
footprint RESC0603[0201]-L (0201贴片电阻 无丝印 2脚 0.60x0.30mm IPC高密度)
footprint RESC0603[0201]-M (0201贴片电阻 无丝印 2脚 0.60x0.30mm IPC低密度)
footprint RESC0603[0201]-N (0201贴片电阻 无丝印 2脚 0.60x0.30mm IPC中密度)
footprint RESC0603[0201]S-L (0201贴片电阻 有丝印 2脚 0.60x0.30mm IPC高密度)
footprint RESC0603[0201]S-M (0201贴片电阻 有丝印 2脚 0.60x0.30mm IPC低密度)
footprint RESC0603[0201]S-N (0201贴片电阻 有丝印 2脚 0.60x0.30mm IPC中密度)
footprint RESC1005[0402]-L (0402贴片电阻 无丝印 2脚 1.00x0.50mm IPC高密度)
footprint RESC1005[0402]S-M (0402贴片电阻 有丝印 2脚 1.00x0.50mm IPC低密度)
footprint RESC1005[0402]-M (0402贴片电阻 无丝印 2脚 1.00x0.50mm IPC低密度)
footprint RESC1005[0402]-N (0402贴片电阻 无丝印 2脚 1.00x0.50mm IPC中密度)
footprint RESC1005[0402]S-L (0402贴片电阻 有丝印 2脚 1.00x0.50mm IPC高密度)
footprint RESC1005[0402]S-N (0402贴片电阻 有丝印 2脚 1.00x0.50mm IPC中密度)
footprint RESC1608[0603]-L (0603贴片电阻 无丝印 2脚 1.60x0.80mm IPC高密度)
footprint RESC1608[0603]-M (0603贴片电阻 无丝印 2脚 1.60x0.80mm IPC低密度)
footprint RESC1608[0603]-N (0603贴片电阻 无丝印 2脚 1.60x0.80mm IPC中密度)
footprint RESC1608[0603]S-L (0603贴片电阻 有丝印 2脚 1.60x0.80mm IPC高密度)
footprint RESC1608[0603]S-M (0603贴片电阻 有丝印 2脚 1.60x0.80mm IPC低密度)
footprint RESC1608[0603]S-N (0603贴片电阻 有丝印 2脚 1.60x0.80mm IPC中密度)
footprint RESC2012[0805] (0805贴片电阻 无丝印 2脚 2.00x1.20mm IPC高密度)
footprint RESC2012[0805]S-L (0805贴片电阻 有丝印 2脚 2.00x1.20mm IPC高密度)
footprint RESC2012[0805]S-M (0805贴片电阻 有丝印 2脚 2.00x1.20mm IPC低密度)
footprint RESC2012[0805]S-N (0805贴片电阻 有丝印 2脚 2.00x1.20mm IPC中密度)
footprint RESC3216[1206] (1206贴片电阻 无丝印 2脚 3.20x1.60mm IPC高密度)
footprint RESC3216[1206]S-L (1206贴片电阻 有丝印 2脚 3.20x1.60mm IPC高密度)
footprint RESC3216[1206]S-M (1206贴片电阻 有丝印 2脚 3.20x1.60mm IPC低密度)
footprint RESC3216[1206]S-N (1206贴片电阻 有丝印 2脚 3.20x1.60mm IPC中密度)
footprint RESC3225[1210] (Chip Resistor, 2-Leads, Body 3.20x2.49mm, IPC Medium Density)
footprint RESC3225[1210]S (Silkscreen Outside, Chip Resistor, 2-Leads, Body 3.20x2.49mm, IPC Medium Density)
footprint RESC5025[2010] (Chip Resistor, 2-Leads, Body 5.00x2.50mm, IPC Medium Density)
footprint RESC5025[2010]S (Silkscreen Outside, Chip Resistor, 2-Leads, Body 5.00x2.50mm, IPC Medium Density)
footprint RESC6332[2512] (2512贴片电阻 无丝印 2脚 6.30x3.20mm IPC中密度)
footprint RESC6332[2512]S (2512贴片电阻 有丝印 2脚 6.30x3.20mm IPC中密度)
pins: 1, 2

## Res-Chip_10
designator R?, comment value 10R  (hidden comment: 10R ±1%)
贴片电阻; Power: 1/8W; Revision: V1.0; Tolerance: ±1%
footprint RESC0603[0201]-L (0201贴片电阻 无丝印 2脚 0.60x0.30mm IPC高密度)
footprint RESC0603[0201]-M (0201贴片电阻 无丝印 2脚 0.60x0.30mm IPC低密度)
footprint RESC0603[0201]-N (0201贴片电阻 无丝印 2脚 0.60x0.30mm IPC中密度)
footprint RESC0603[0201]S-L (0201贴片电阻 有丝印 2脚 0.60x0.30mm IPC高密度)
footprint RESC0603[0201]S-M (0201贴片电阻 有丝印 2脚 0.60x0.30mm IPC低密度)
footprint RESC0603[0201]S-N (0201贴片电阻 有丝印 2脚 0.60x0.30mm IPC中密度)
footprint RESC1005[0402]-L (0402贴片电阻 无丝印 2脚 1.00x0.50mm IPC高密度)
footprint RESC1005[0402]S-M (0402贴片电阻 有丝印 2脚 1.00x0.50mm IPC低密度)
footprint RESC1005[0402]-M (0402贴片电阻 无丝印 2脚 1.00x0.50mm IPC低密度)
footprint RESC1005[0402]-N (0402贴片电阻 无丝印 2脚 1.00x0.50mm IPC中密度)
footprint RESC1005[0402]S-L (0402贴片电阻 有丝印 2脚 1.00x0.50mm IPC高密度)
footprint RESC1005[0402]S-N (0402贴片电阻 有丝印 2脚 1.00x0.50mm IPC中密度)
footprint RESC1608[0603]-L (0603贴片电阻 无丝印 2脚 1.60x0.80mm IPC高密度)
footprint RESC1608[0603]-M (0603贴片电阻 无丝印 2脚 1.60x0.80mm IPC低密度)
footprint RESC1608[0603]-N (0603贴片电阻 无丝印 2脚 1.60x0.80mm IPC中密度)
footprint RESC1608[0603]S-L (0603贴片电阻 有丝印 2脚 1.60x0.80mm IPC高密度)
footprint RESC1608[0603]S-M (0603贴片电阻 有丝印 2脚 1.60x0.80mm IPC低密度)
footprint RESC1608[0603]S-N (0603贴片电阻 有丝印 2脚 1.60x0.80mm IPC中密度)
footprint RESC2012[0805] (0805贴片电阻 无丝印 2脚 2.00x1.20mm IPC高密度)
footprint RESC2012[0805]S-L (0805贴片电阻 有丝印 2脚 2.00x1.20mm IPC高密度)
footprint RESC2012[0805]S-M (0805贴片电阻 有丝印 2脚 2.00x1.20mm IPC低密度)
footprint RESC2012[0805]S-N (0805贴片电阻 有丝印 2脚 2.00x1.20mm IPC中密度)
footprint RESC3216[1206] (1206贴片电阻 无丝印 2脚 3.20x1.60mm IPC高密度)
footprint RESC3216[1206]S-L (1206贴片电阻 有丝印 2脚 3.20x1.60mm IPC高密度)
footprint RESC3216[1206]S-M (1206贴片电阻 有丝印 2脚 3.20x1.60mm IPC低密度)
footprint RESC3216[1206]S-N (1206贴片电阻 有丝印 2脚 3.20x1.60mm IPC中密度)
footprint RESC3225[1210] (Chip Resistor, 2-Leads, Body 3.20x2.49mm, IPC Medium Density)
footprint RESC3225[1210]S (Silkscreen Outside, Chip Resistor, 2-Leads, Body 3.20x2.49mm, IPC Medium Density)
footprint RESC5025[2010] (Chip Resistor, 2-Leads, Body 5.00x2.50mm, IPC Medium Density)
footprint RESC5025[2010]S (Silkscreen Outside, Chip Resistor, 2-Leads, Body 5.00x2.50mm, IPC Medium Density)
footprint RESC6332[2512] (2512贴片电阻 无丝印 2脚 6.30x3.20mm IPC中密度)
footprint RESC6332[2512]S (2512贴片电阻 有丝印 2脚 6.30x3.20mm IPC中密度)
pins: 1, 2

## Res-Chip_11
designator R?, comment value 1K  (hidden comment: 1K ±1%)
贴片电阻; Power: 1/8W; Revision: V1.0; Tolerance: ±1%
footprint RESC0603[0201]-L (0201贴片电阻 无丝印 2脚 0.60x0.30mm IPC高密度)
footprint RESC0603[0201]-M (0201贴片电阻 无丝印 2脚 0.60x0.30mm IPC低密度)
footprint RESC0603[0201]-N (0201贴片电阻 无丝印 2脚 0.60x0.30mm IPC中密度)
footprint RESC0603[0201]S-L (0201贴片电阻 有丝印 2脚 0.60x0.30mm IPC高密度)
footprint RESC0603[0201]S-M (0201贴片电阻 有丝印 2脚 0.60x0.30mm IPC低密度)
footprint RESC0603[0201]S-N (0201贴片电阻 有丝印 2脚 0.60x0.30mm IPC中密度)
footprint RESC1005[0402]-L (0402贴片电阻 无丝印 2脚 1.00x0.50mm IPC高密度)
footprint RESC1005[0402]S-M (0402贴片电阻 有丝印 2脚 1.00x0.50mm IPC低密度)
footprint RESC1005[0402]-M (0402贴片电阻 无丝印 2脚 1.00x0.50mm IPC低密度)
footprint RESC1005[0402]-N (0402贴片电阻 无丝印 2脚 1.00x0.50mm IPC中密度)
footprint RESC1005[0402]S-L (0402贴片电阻 有丝印 2脚 1.00x0.50mm IPC高密度)
footprint RESC1005[0402]S-N (0402贴片电阻 有丝印 2脚 1.00x0.50mm IPC中密度)
footprint RESC1608[0603]-L (0603贴片电阻 无丝印 2脚 1.60x0.80mm IPC高密度)
footprint RESC1608[0603]-M (0603贴片电阻 无丝印 2脚 1.60x0.80mm IPC低密度)
footprint RESC1608[0603]-N (0603贴片电阻 无丝印 2脚 1.60x0.80mm IPC中密度)
footprint RESC1608[0603]S-L (0603贴片电阻 有丝印 2脚 1.60x0.80mm IPC高密度)
footprint RESC1608[0603]S-M (0603贴片电阻 有丝印 2脚 1.60x0.80mm IPC低密度)
footprint RESC1608[0603]S-N (0603贴片电阻 有丝印 2脚 1.60x0.80mm IPC中密度)
footprint RESC2012[0805] (0805贴片电阻 无丝印 2脚 2.00x1.20mm IPC高密度)
footprint RESC2012[0805]S-L (0805贴片电阻 有丝印 2脚 2.00x1.20mm IPC高密度)
footprint RESC2012[0805]S-M (0805贴片电阻 有丝印 2脚 2.00x1.20mm IPC低密度)
footprint RESC2012[0805]S-N (0805贴片电阻 有丝印 2脚 2.00x1.20mm IPC中密度)
footprint RESC3216[1206] (1206贴片电阻 无丝印 2脚 3.20x1.60mm IPC高密度)
footprint RESC3216[1206]S-L (1206贴片电阻 有丝印 2脚 3.20x1.60mm IPC高密度)
footprint RESC3216[1206]S-M (1206贴片电阻 有丝印 2脚 3.20x1.60mm IPC低密度)
footprint RESC3216[1206]S-N (1206贴片电阻 有丝印 2脚 3.20x1.60mm IPC中密度)
footprint RESC3225[1210] (Chip Resistor, 2-Leads, Body 3.20x2.49mm, IPC Medium Density)
footprint RESC3225[1210]S (Silkscreen Outside, Chip Resistor, 2-Leads, Body 3.20x2.49mm, IPC Medium Density)
footprint RESC5025[2010] (Chip Resistor, 2-Leads, Body 5.00x2.50mm, IPC Medium Density)
footprint RESC5025[2010]S (Silkscreen Outside, Chip Resistor, 2-Leads, Body 5.00x2.50mm, IPC Medium Density)
footprint RESC6332[2512] (2512贴片电阻 无丝印 2脚 6.30x3.20mm IPC中密度)
footprint RESC6332[2512]S (2512贴片电阻 有丝印 2脚 6.30x3.20mm IPC中密度)
pins: 1, 2

## Res-Chip_12
designator R?, comment value 470R  (hidden comment: 470R ±1%)
贴片电阻; Power: 1/8W; Revision: V1.0; Tolerance: ±1%
footprint RESC0603[0201]-L (0201贴片电阻 无丝印 2脚 0.60x0.30mm IPC高密度)
footprint RESC0603[0201]-M (0201贴片电阻 无丝印 2脚 0.60x0.30mm IPC低密度)
footprint RESC0603[0201]-N (0201贴片电阻 无丝印 2脚 0.60x0.30mm IPC中密度)
footprint RESC0603[0201]S-L (0201贴片电阻 有丝印 2脚 0.60x0.30mm IPC高密度)
footprint RESC0603[0201]S-M (0201贴片电阻 有丝印 2脚 0.60x0.30mm IPC低密度)
footprint RESC0603[0201]S-N (0201贴片电阻 有丝印 2脚 0.60x0.30mm IPC中密度)
footprint RESC1005[0402]-L (0402贴片电阻 无丝印 2脚 1.00x0.50mm IPC高密度)
footprint RESC1005[0402]S-M (0402贴片电阻 有丝印 2脚 1.00x0.50mm IPC低密度)
footprint RESC1005[0402]-M (0402贴片电阻 无丝印 2脚 1.00x0.50mm IPC低密度)
footprint RESC1005[0402]-N (0402贴片电阻 无丝印 2脚 1.00x0.50mm IPC中密度)
footprint RESC1005[0402]S-L (0402贴片电阻 有丝印 2脚 1.00x0.50mm IPC高密度)
footprint RESC1005[0402]S-N (0402贴片电阻 有丝印 2脚 1.00x0.50mm IPC中密度)
footprint RESC1608[0603]-L (0603贴片电阻 无丝印 2脚 1.60x0.80mm IPC高密度)
footprint RESC1608[0603]-M (0603贴片电阻 无丝印 2脚 1.60x0.80mm IPC低密度)
footprint RESC1608[0603]-N (0603贴片电阻 无丝印 2脚 1.60x0.80mm IPC中密度)
footprint RESC1608[0603]S-L (0603贴片电阻 有丝印 2脚 1.60x0.80mm IPC高密度)
footprint RESC1608[0603]S-M (0603贴片电阻 有丝印 2脚 1.60x0.80mm IPC低密度)
footprint RESC1608[0603]S-N (0603贴片电阻 有丝印 2脚 1.60x0.80mm IPC中密度)
footprint RESC2012[0805] (0805贴片电阻 无丝印 2脚 2.00x1.20mm IPC高密度)
footprint RESC2012[0805]S-L (0805贴片电阻 有丝印 2脚 2.00x1.20mm IPC高密度)
footprint RESC2012[0805]S-M (0805贴片电阻 有丝印 2脚 2.00x1.20mm IPC低密度)
footprint RESC2012[0805]S-N (0805贴片电阻 有丝印 2脚 2.00x1.20mm IPC中密度)
footprint RESC3216[1206] (1206贴片电阻 无丝印 2脚 3.20x1.60mm IPC高密度)
footprint RESC3216[1206]S-L (1206贴片电阻 有丝印 2脚 3.20x1.60mm IPC高密度)
footprint RESC3216[1206]S-M (1206贴片电阻 有丝印 2脚 3.20x1.60mm IPC低密度)
footprint RESC3216[1206]S-N (1206贴片电阻 有丝印 2脚 3.20x1.60mm IPC中密度)
footprint RESC3225[1210] (Chip Resistor, 2-Leads, Body 3.20x2.49mm, IPC Medium Density)
footprint RESC3225[1210]S (Silkscreen Outside, Chip Resistor, 2-Leads, Body 3.20x2.49mm, IPC Medium Density)
footprint RESC5025[2010] (Chip Resistor, 2-Leads, Body 5.00x2.50mm, IPC Medium Density)
footprint RESC5025[2010]S (Silkscreen Outside, Chip Resistor, 2-Leads, Body 5.00x2.50mm, IPC Medium Density)
footprint RESC6332[2512] (2512贴片电阻 无丝印 2脚 6.30x3.20mm IPC中密度)
footprint RESC6332[2512]S (2512贴片电阻 有丝印 2脚 6.30x3.20mm IPC中密度)
pins: 1, 2

## RT9013-33
designator U?
3.3V 500mA SOT-23-5 LDO
footprint SOT-23-5 (SOT23, 5-Leads, Body 2.92x2.79mm, Pitch 0.95mm, IPC Medium Density)
pins: 1 IN, 2 GND, 3 EN, 4 NC, 5 OUT

## SCT2450
designator U?
3.8V-36V Vin, 5A, High Efficiency Synchronous Step-down DCDC Converter / with Programmable Frequency
footprint SOP-8E (SOIC,1.27mm pitch;8 pin,3.90mm W X 4.88mm L X 1.73mm H body)
pins: 1 BOOT, 2 VIN, 3 EN, 4 RT/CLK, 5 FB, 6 COMP, 7 GND, 8 SW, 9 EP/GND

## SS54
designator D?
SS54 肖特基二极管; Revision: V1.0; Value: SS54
footprint SMA-L[DO-214AC] (SMA 二极管 贴片 IPC高密度)
pins: A, K

## SW-SPDT
designator S?  (value not drawn)
单刀双掷开关 3脚船型、钮子、拨动开关 SPDT Subminiature Toggle Switch; Published: 24-Mar-1999; Publisher: Altium Limited; Price(RMB): 0.000
footprint ToggleSwitch 7102
footprint SS12D06 (拨动开关，弯脚，脚距4.8)
footprint SS12D10 (拨动开关 直脚 脚距4.8)
footprint SS12D07VG4
footprint MSK-12C02 (MSK-12C02 侧贴2档7脚开关 带定位柱)
pins: 1, 2, 3

## T-S 10uF 3216 16V
designator C?, comment value 10uF  FootPrint: 3216  Type: TanCap  Voltage: 16V  (hidden comment: 10uF 16V 钽电容)
贴片钽电容 10uF 3216 16V; Revision: July-2002: Re-released for DXP Platform.
footprint CAP-T-S 3216 (贴片 钽电容 A型 3216)
pins: 1, 2

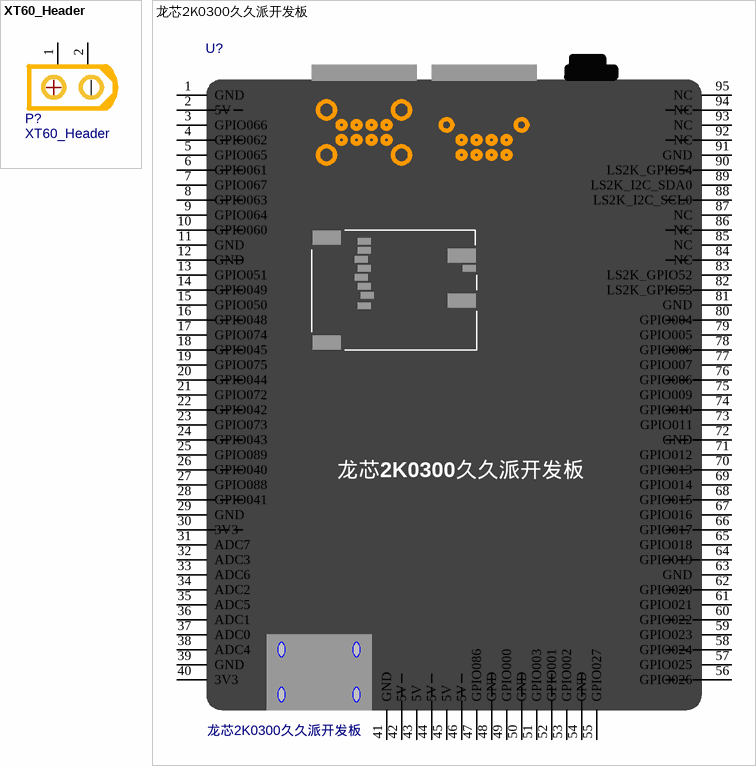
[diagram p1: symbols XT60_Header to 龙芯2K0300久久派开发板]

## XT60_Header
designator P?
footprint XT60UM
footprint Wired T-Header (带线T头贴片焊盘)
footprint Wired T-Header ThroughHole (带线T头直插焊盘)
footprint XT60UF (XT60UM)
pins: 1 +, 2 -

## 龙芯2K0300久久派开发板
designator U?
逐飞科技龙芯2K0300久久派开发板整体原理图，可直接使用; Revision: V1.0
footprint 龙芯2K0300久久派开发板
pins: 1 GND, 2 5V, 3 GPIO066, 4 GPIO062, 5 GPIO065, 6 GPIO061, 7 GPIO067, 8 GPIO063, 9 GPIO064, 10 GPIO060, 11 GND, 12 GND, 13 GPIO051, 14 GPIO049, 15 GPIO050, 16 GPIO048, 17 GPIO074, 18 GPIO045, 19 GPIO075, 20 GPIO044, 21 GPIO072, 22 GPIO042, 23 GPIO073, 24 GPIO043, 25 GPIO089, 26 GPIO040, 27 GPIO088, 28 GPIO041, 29 GND, 30 3V3, 31 ADC7, 32 ADC3, 33 ADC6, 34 ADC2, 35 ADC5, 36 ADC1, 37 ADC0, 38 ADC4, 39 GND, 40 3V3, 41 GND, 42 5V, 43 5V, 44 5V, 45 5V, 46 5V, 47 GPIO086, 48 GND, 49 GPIO000, 50 GND, 51 GPIO003, 52 GPIO001, 53 GPIO002, 54 GND, 55 GPIO027, 56 GPIO026, 57 GPIO025, 58 GPIO024, 59 GPIO023, 60 GPIO022, 61 GPIO021, 62 GPIO020, 63 GND, 64 GPIO019, 65 GPIO018, 66 GPIO017, 67 GPIO016, 68 GPIO015, 69 GPIO014, 70 GPIO013, 71 GPIO012, 72 GND, 73 GPIO011, 74 GPIO010, 75 GPIO009, 76 GPIO006, 77 GPIO007, 78 GPIO006, 79 GPIO005, 80 GPIO004, 81 GND, 82 LS2K_GPIO53, 83 LS2K_GPIO52, 84 NC, 85 NC, 86 NC, 87 NC, 88 LS2K_I2C_SCL0, 89 LS2K_I2C_SDA0, 90 LS2K_GPIO54, 91 GND, 92 NC, 93 NC, 94 NC, 95 NC